# EAGLE library part FM6316FE (library FM6316FE)
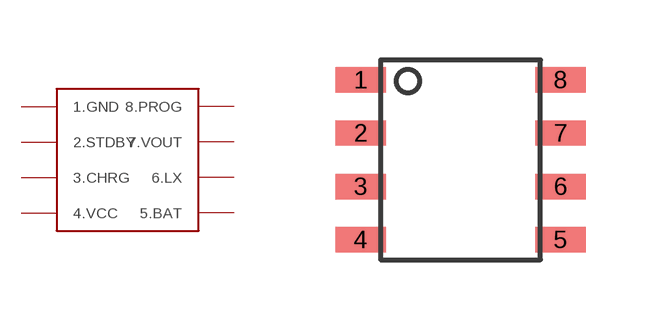
[diagram p0: symbol with the pads of SOP-8; footprint SOP-8]

Designator prefix -

## FM6316FE  [SOP-8]
1  1.GND
2  2.STDBY
3  3.CHRG
4  4.VCC
5  5.BAT
6  6.LX
7  7.VOUT
8  8.PROG

## Footprint SOP-8 (pad centres in mm)
smd 1.27 x 0.635: 1 -2.5,2; 2 -2.5,0.67; 3 -2.5,-0.67; 4 -2.5,-2; 5 2.5,-2; 6 2.5,-0.67; 7 2.5,0.67; 8 2.5,2